# Altium footprint library Capstone PCB.PcbLib: 8 footprints
Each footprint in its own frame and in the unit in brackets; x right, y up, seen from the top. Pads: shape width x height; smd on the part's side, far side on the other; paste and mask are expansions set on the pad; w line width, h text height; cw(c..) or ccw(c..) is an arc to the next point about the centre after c.
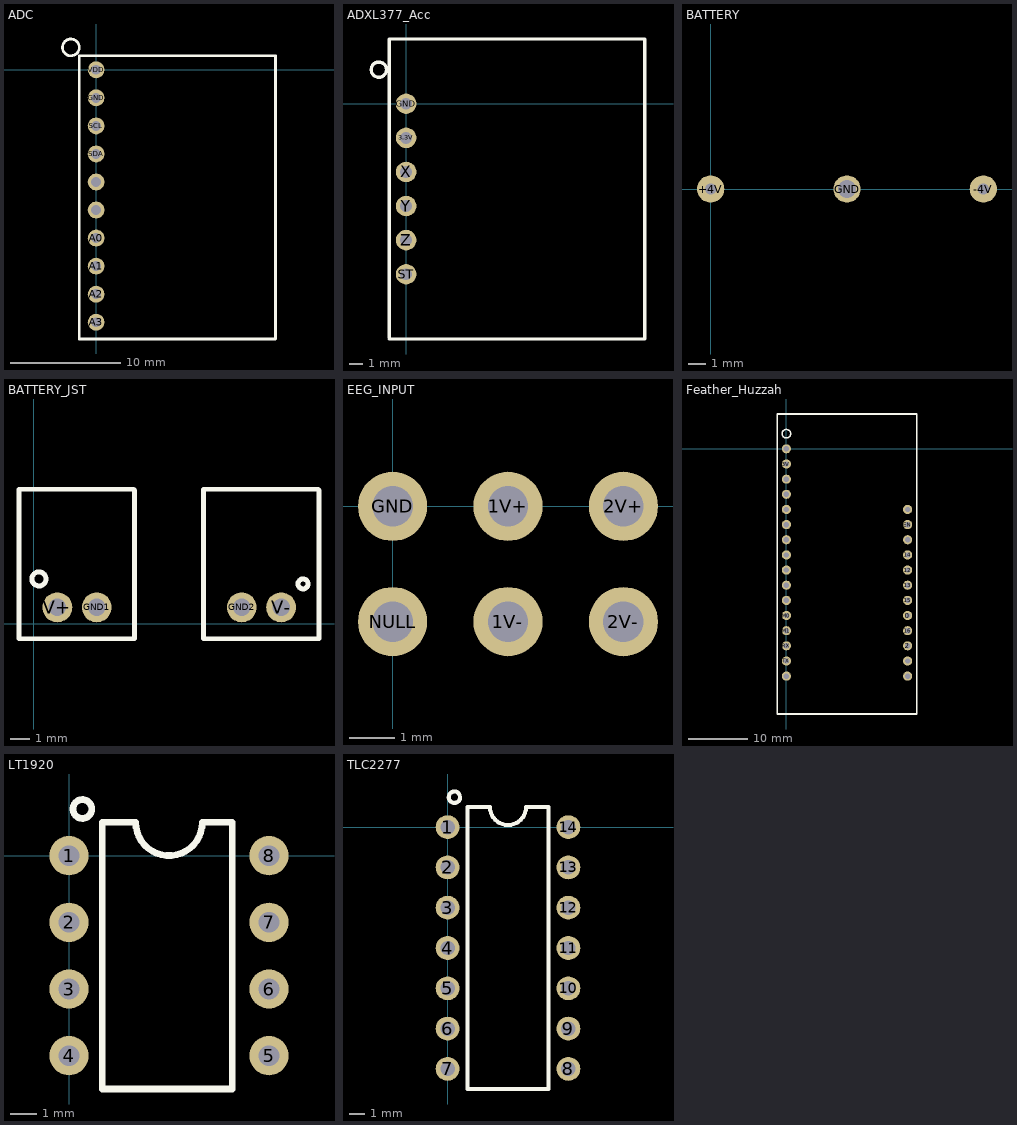
[diagram p0: the footprints below, top view; thin cyan lines are the x and y axes]

## ADC [mil]
pads (10):
  round 60 hole 35: A0(0,-600) A1(0,-700) A2(0,-800) A3(0,-900) ADDR(0,-400) ALRT(0,-500) GND(0,-100) SCL(0,-200) SDA(0,-300) VDD(0,0)
Top Overlay:
  circle w10: c-90,80 r30
  lines w10: -60,-960 -60,-950 -60,50 640,50 640,-960 -60,-960

## ADXL377_Acc [mil]
pads (6):
  round 60 hole 35: 3.3V(0,-100) GND(0,0) ST(0,-500) X(0,-200) Y(0,-300) Z(0,-400)
Top Overlay:
  circle w10: c-80,100 r22.36
  lines w10: -50,-690 700,-690 700,190 -50,190 -50,-685

## BATTERY [mil]
pads (3):
  round 60 hole 25: +4V(0,0) -4V(600,0)
  round 60 hole 40: GND(300,0)

## BATTERY_JST [mil]
pads (4):
  round 60 hole 35: GND1(126,33) GND2(417,33) V+(47,33) V-(496,33)
Top Overlay:
  circle w10: c10,90 r14.14
  circle w10: c540,80 r10
  lines w10: -30,-30 202,-30 202,268 200,270 -30,270 -30,-30 ; 340,-30 340,270 570,270 572,268 572,-30 340,-30

## EEG_INPUT [mil]
pads (6):
  round 60 hole 35: 1V+(100,0) 1V-(100,-100) 2V+(200,0) 2V-(200,-100) GND(0,0) NULL(0,-100)

## Feather_Huzzah [mil] "ESP8266 Feather Breakout Board"
pads (28):
  round 60 hole 35: 0(800,-1100) 2(800,-1300) 3V(0,-100) 12(800,-800) 13(800,-900) 14(800,-700) 15(800,-1000) 16(800,-1200) ADC(0,-400) BAT(800,-400) CHPD(0,-1500) EN(800,-500) GND(0,-300) M0(0,-1100) M1(0,-1200) NC1(0,-200) NC2(0,-500) NC3(0,-600) NC4(0,-700) NC5(0,-800) NC6(0,-900) RST(0,0) RX(0,-1300) SCK(0,-1000) SCL(800,-1400) SDA(800,-1500) TX(0,-1400) USB(800,-600)
Top Overlay:
  circle w10: c0,100 r28.28
  lines w10: -60,-1750 -60,230 860,230 860,-1750 -60,-1750

## LT1920 [mm] "LT1920 OpAmp"
pads (8):
  round 1.5 hole 0.783: 1(0,0) 2(0,-2.54) 3(0,-5.08) 4(0,-7.62) 5(7.62,-7.62) 6(7.62,-5.08) 7(7.62,-2.54) 8(7.62,0)
Top Overlay:
  circle w0.254: c0.508,1.778 r0.359
  lines w0.254: 1.27,-8.89 6.223,-8.89 6.223,1.27 5.08,1.27 cw(c3.81,1.27) 2.54,1.27 1.27,1.27 1.27,-8.89

## TLC2277 [mm] "TLC2277 OpAmp"
pads (14):
  round 1.5 hole 0.91: 1(0,0) 2(0,-2.54) 3(0,-5.08) 4(0,-7.62) 5(0,-10.16) 6(0,-12.7) 7(0,-15.24) 8(7.62,-15.24) 9(7.62,-12.7) 10(7.62,-10.16) 11(7.62,-7.62) 12(7.62,-5.08) 13(7.62,-2.54) 14(7.62,0)
Top Overlay:
  lines w0.254: 0.762,2.032 ccw(c0.431,1.893) 0.79,1.893 ; 2.54,1.27 1.27,1.27 1.27,-16.51 6.35,-16.51 6.35,1.27 5.08,1.27 ; 2.674,1.27 ccw(c3.81,1.27) 4.946,1.27